# Altium footprint library stm32l432kc_mciro.PcbLib: 1 footprints
Each footprint in its own frame and in the unit in brackets; x right, y up, seen from the top. Pads: shape width x height; smd on the part's side, far side on the other; paste and mask are expansions set on the pad; w line width, h text height; cw(c..) or ccw(c..) is an arc to the next point about the centre after c.
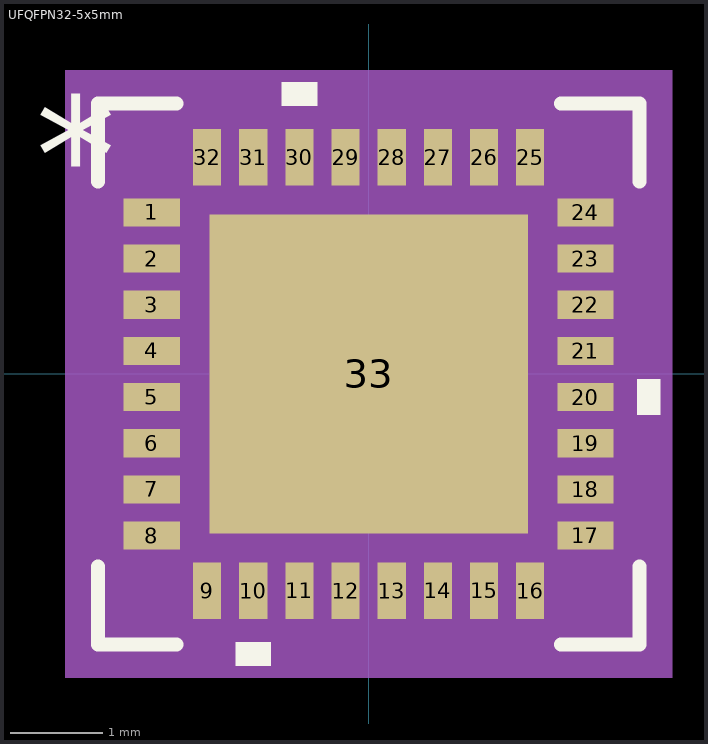
[diagram p0: the footprint, top view; thin cyan lines are the x and y axes]

## UFQFPN32-5x5mm [mil]
pads (33):
  rect 24x12 smd paste-6 mask+0: 1(-92.52,68.92) 2(-92.52,49.23) 3(-92.52,29.54) 4(-92.52,9.85) 5(-92.52,-9.85) 6(-92.52,-29.54) 7(-92.52,-49.23) 8(-92.52,-68.92) 17(92.52,-68.92) 18(92.52,-49.23) 19(92.52,-29.54) 20(92.52,-9.85) 21(92.52,9.85) 22(92.52,29.54) 23(92.52,49.23) 24(92.52,68.92)
  rect 12x24 smd paste-6 mask+0: 9(-68.92,-92.52) 10(-49.23,-92.52) 11(-29.54,-92.52) 12(-9.85,-92.52) 13(9.85,-92.52) 14(29.54,-92.52) 15(49.23,-92.52) 16(68.92,-92.52) 25(68.92,92.52) 26(49.23,92.52) 27(29.54,92.52) 28(9.85,92.52) 29(-9.85,92.52) 30(-29.54,92.52) 31(-49.23,92.52) 32(-68.92,92.52)
  rect 136x136 smd paste-68 mask+0: 33(0,0)
Top Overlay:
  region: -22.04,114.52 -37.03,114.52 -37.03,124.52 -22.04,124.52
  region: 114.52,-2.35 124.52,-2.35 124.52,-17.34 114.52,-17.34
  region: -41.73,-114.52 -56.73,-114.52 -56.73,-124.52 -41.73,-124.52
  lines w6: -115.5,-82.06 -115.5,-115.5 -82.06,-115.5 ; -115.5,82.06 -115.5,115.5 -82.06,115.5 ; 82.06,-115.5 115.5,-115.5 115.5,-82.06 ; 82.06,115.5 115.5,115.5 115.5,82.06
  text "*" at -142.02,68.76 h50
Top Paste:
  region: 64.06,-3.94 3.94,-3.94 3.94,-64.06 64.06,-64.06
  region: 64.06,64.06 3.94,64.06 3.94,3.94 64.06,3.94
  region: -3.94,-3.94 -64.06,-3.94 -64.06,-64.06 -3.94,-64.06
  region: -3.94,64.06 -64.06,64.06 -64.06,3.94 -3.94,3.94
  region: -62.91,104.52 -74.92,104.52 -74.92,80.52 -62.91,80.52
  region: -43.23,104.52 -55.23,104.52 -55.23,80.52 -43.23,80.52
  region: -23.54,104.52 -35.53,104.52 -35.53,80.52 -23.54,80.52
  region: -3.85,104.52 -15.85,104.52 -15.85,80.52 -3.85,80.52
  region: 15.85,104.52 3.85,104.52 3.85,80.52 15.85,80.52
  region: 35.53,104.52 23.54,104.52 23.54,80.52 35.53,80.52
  region: 55.23,104.52 43.23,104.52 43.23,80.52 55.23,80.52
  region: 74.92,104.52 62.91,104.52 62.91,80.52 74.92,80.52
  region: 104.52,74.92 80.52,74.92 80.52,62.91 104.52,62.91
  region: 104.52,55.23 80.52,55.23 80.52,43.23 104.52,43.23
  region: 104.52,35.53 80.52,35.53 80.52,23.54 104.52,23.54
  region: 104.52,15.85 80.52,15.85 80.52,3.85 104.52,3.85
  region: 104.52,-3.85 80.52,-3.85 80.52,-15.85 104.52,-15.85
  region: 104.52,-23.54 80.52,-23.54 80.52,-35.53 104.52,-35.53
  region: 104.52,-43.23 80.52,-43.23 80.52,-55.23 104.52,-55.23
  region: 104.52,-62.91 80.52,-62.91 80.52,-74.92 104.52,-74.92
  region: 74.92,-80.52 62.91,-80.52 62.91,-104.52 74.92,-104.52
  region: 55.23,-80.52 43.23,-80.52 43.23,-104.52 55.23,-104.52
  region: 35.53,-80.52 23.54,-80.52 23.54,-104.52 35.53,-104.52
  region: 15.85,-80.52 3.85,-80.52 3.85,-104.52 15.85,-104.52
  region: -3.85,-80.52 -15.85,-80.52 -15.85,-104.52 -3.85,-104.52
  region: -23.54,-80.52 -35.53,-80.52 -35.53,-104.52 -23.54,-104.52
  region: -43.23,-80.52 -55.23,-80.52 -55.23,-104.52 -43.23,-104.52
  region: -62.91,-80.52 -74.92,-80.52 -74.92,-104.52 -62.91,-104.52
  region: -80.52,-62.91 -104.52,-62.91 -104.52,-74.92 -80.52,-74.92
  region: -80.52,-43.23 -104.52,-43.23 -104.52,-55.23 -80.52,-55.23
  region: -80.52,-23.54 -104.52,-23.54 -104.52,-35.53 -80.52,-35.53
  region: -80.52,-3.85 -104.52,-3.85 -104.52,-15.85 -80.52,-15.85
  region: -80.52,15.85 -104.52,15.85 -104.52,3.85 -80.52,3.85
  region: -80.52,35.53 -104.52,35.53 -104.52,23.54 -80.52,23.54
  region: -80.52,55.23 -104.52,55.23 -104.52,43.23 -80.52,43.23
  region: -80.52,74.92 -104.52,74.92 -104.52,62.91 -80.52,62.91
Top Solder:
  region: -62.91,104.52 -74.92,104.52 -74.92,80.52 -62.91,80.52
  region: -43.23,104.52 -55.23,104.52 -55.23,80.52 -43.23,80.52
  region: -23.54,104.52 -35.53,104.52 -35.53,80.52 -23.54,80.52
  region: -3.85,104.52 -15.85,104.52 -15.85,80.52 -3.85,80.52
  region: 15.85,104.52 3.85,104.52 3.85,80.52 15.85,80.52
  region: 35.53,104.52 23.54,104.52 23.54,80.52 35.53,80.52
  region: 55.23,104.52 43.23,104.52 43.23,80.52 55.23,80.52
  region: 74.92,104.52 62.91,104.52 62.91,80.52 74.92,80.52
  region: 104.52,74.92 80.52,74.92 80.52,62.91 104.52,62.91
  region: 104.52,55.23 80.52,55.23 80.52,43.23 104.52,43.23
  region: 104.52,35.53 80.52,35.53 80.52,23.54 104.52,23.54
  region: 104.52,15.85 80.52,15.85 80.52,3.85 104.52,3.85
  region: 104.52,-3.85 80.52,-3.85 80.52,-15.85 104.52,-15.85
  region: 104.52,-23.54 80.52,-23.54 80.52,-35.53 104.52,-35.53
  region: 104.52,-43.23 80.52,-43.23 80.52,-55.23 104.52,-55.23
  region: 104.52,-62.91 80.52,-62.91 80.52,-74.92 104.52,-74.92
  region: 74.92,-80.52 62.91,-80.52 62.91,-104.52 74.92,-104.52
  region: 55.23,-80.52 43.23,-80.52 43.23,-104.52 55.23,-104.52
  region: 35.53,-80.52 23.54,-80.52 23.54,-104.52 35.53,-104.52
  region: 15.85,-80.52 3.85,-80.52 3.85,-104.52 15.85,-104.52
  region: -3.85,-80.52 -15.85,-80.52 -15.85,-104.52 -3.85,-104.52
  region: -23.54,-80.52 -35.53,-80.52 -35.53,-104.52 -23.54,-104.52
  region: -43.23,-80.52 -55.23,-80.52 -55.23,-104.52 -43.23,-104.52
  region: -62.91,-80.52 -74.92,-80.52 -74.92,-104.52 -62.91,-104.52
  region: -80.52,-62.91 -104.52,-62.91 -104.52,-74.92 -80.52,-74.92
  region: -80.52,-43.23 -104.52,-43.23 -104.52,-55.23 -80.52,-55.23
  region: -80.52,-23.54 -104.52,-23.54 -104.52,-35.53 -80.52,-35.53
  region: -80.52,-3.85 -104.52,-3.85 -104.52,-15.85 -80.52,-15.85
  region: -80.52,15.85 -104.52,15.85 -104.52,3.85 -80.52,3.85
  region: -80.52,35.53 -104.52,35.53 -104.52,23.54 -80.52,23.54
  region: -80.52,55.23 -104.52,55.23 -104.52,43.23 -80.52,43.23
  region: -80.52,74.92 -104.52,74.92 -104.52,62.91 -80.52,62.91
Mechanical 5:
  region: 129.52,-129.52 -129.52,-129.52 -129.52,129.52 129.52,129.52
Mechanical 13:
  lines w1: -100.5,50.5 -50.5,100.5 ; -100.5,-100.5 -100.5,100.5 100.5,100.5 100.5,-100.5 -100.5,-100.5
  text "*" at -83.02,53.76 h50
Mechanical 15:
  region: -84.92,-110.5 -110.5,-110.5 -110.5,-84.92 -114.52,-84.92 -114.52,84.92 -110.5,84.92 -110.5,110.5 -84.92,110.5 -84.92,114.52 84.92,114.52 84.92,110.5 110.5,110.5 110.5,84.92 114.52,84.92 114.52,-84.92 110.5,-84.92 110.5,-110.5 84.92,-110.5 84.92,-114.52 -84.92,-114.52
  lines w6: -114.52,-84.92 -114.52,84.92 -110.5,84.92 -110.5,110.5 -84.92,110.5 -84.92,114.52 84.92,114.52 84.92,110.5 110.5,110.5 110.5,84.92 114.52,84.92 114.52,-84.92 110.5,-84.92 110.5,-110.5 84.92,-110.5 84.92,-114.52 -84.92,-114.52 -84.92,-110.5 -110.5,-110.5 -110.5,-84.92 -114.52,-84.92
3D body: height 10, standoff 0, extent 0,0 10,10